# Altium footprint library Flex_SOT-23-3_123.PcbLib: 1 footprints
Each footprint in its own frame and in the unit in brackets; x right, y up, seen from the top. Pads: shape width x height; smd on the part's side, far side on the other; paste and mask are expansions set on the pad; w line width, h text height; cw(c..) or ccw(c..) is an arc to the next point about the centre after c.
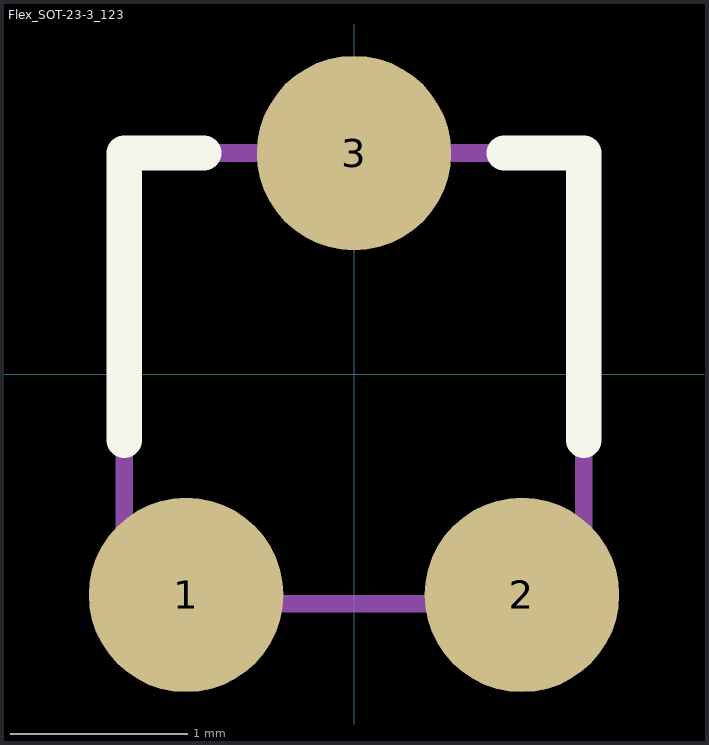
[diagram p0: the footprint, top view; thin cyan lines are the x and y axes]

## Flex_SOT-23-3_123 [mm]
height 1.245
pads (3):
  round 1.1 smd paste-0.2 mask-0.102: 1(-0.95,-1.25) 2(0.95,-1.25) 3(0,1.25)
Top Overlay:
  lines w0.2: -1.3,-0.375 -1.3,1.25 -0.85,1.25 ; 0.85,1.25 1.3,1.25 1.3,-0.375
Mechanical 13:
  rectangle: -0.3,1.25 0.3,1.5
  region: -0.625,-1.275 -1.225,-1.275 -1.225,-1.525 -0.625,-1.525
  region: 1.225,-1.275 0.625,-1.275 0.625,-1.525 1.225,-1.525
  lines w0.1: -1.3,-1.3 -1.3,1.25 1.3,1.25 1.3,-1.3 -1.3,-1.3
3D body: height 0.13, standoff 0, extent -0.239,0.651 0.268,1.362
3D body: height 0.13, standoff 0, extent 0.663,-1.254 1.17,-0.543
3D body: height 1.25, standoff 0, extent -1.142,-0.543 1.171,0.651
3D body: height 0.13, standoff 0, extent -1.115,-1.254 -0.608,-0.543